# Altium footprint library hsbest2.PcbLib: 365 footprints (part 15 of 23)
Each footprint in its own frame and in the unit in brackets; x right, y up, seen from the top. Pads: shape width x height; smd on the part's side, far side on the other; paste and mask are expansions set on the pad; w line width, h text height; cw(c..) or ccw(c..) is an arc to the next point about the centre after c.
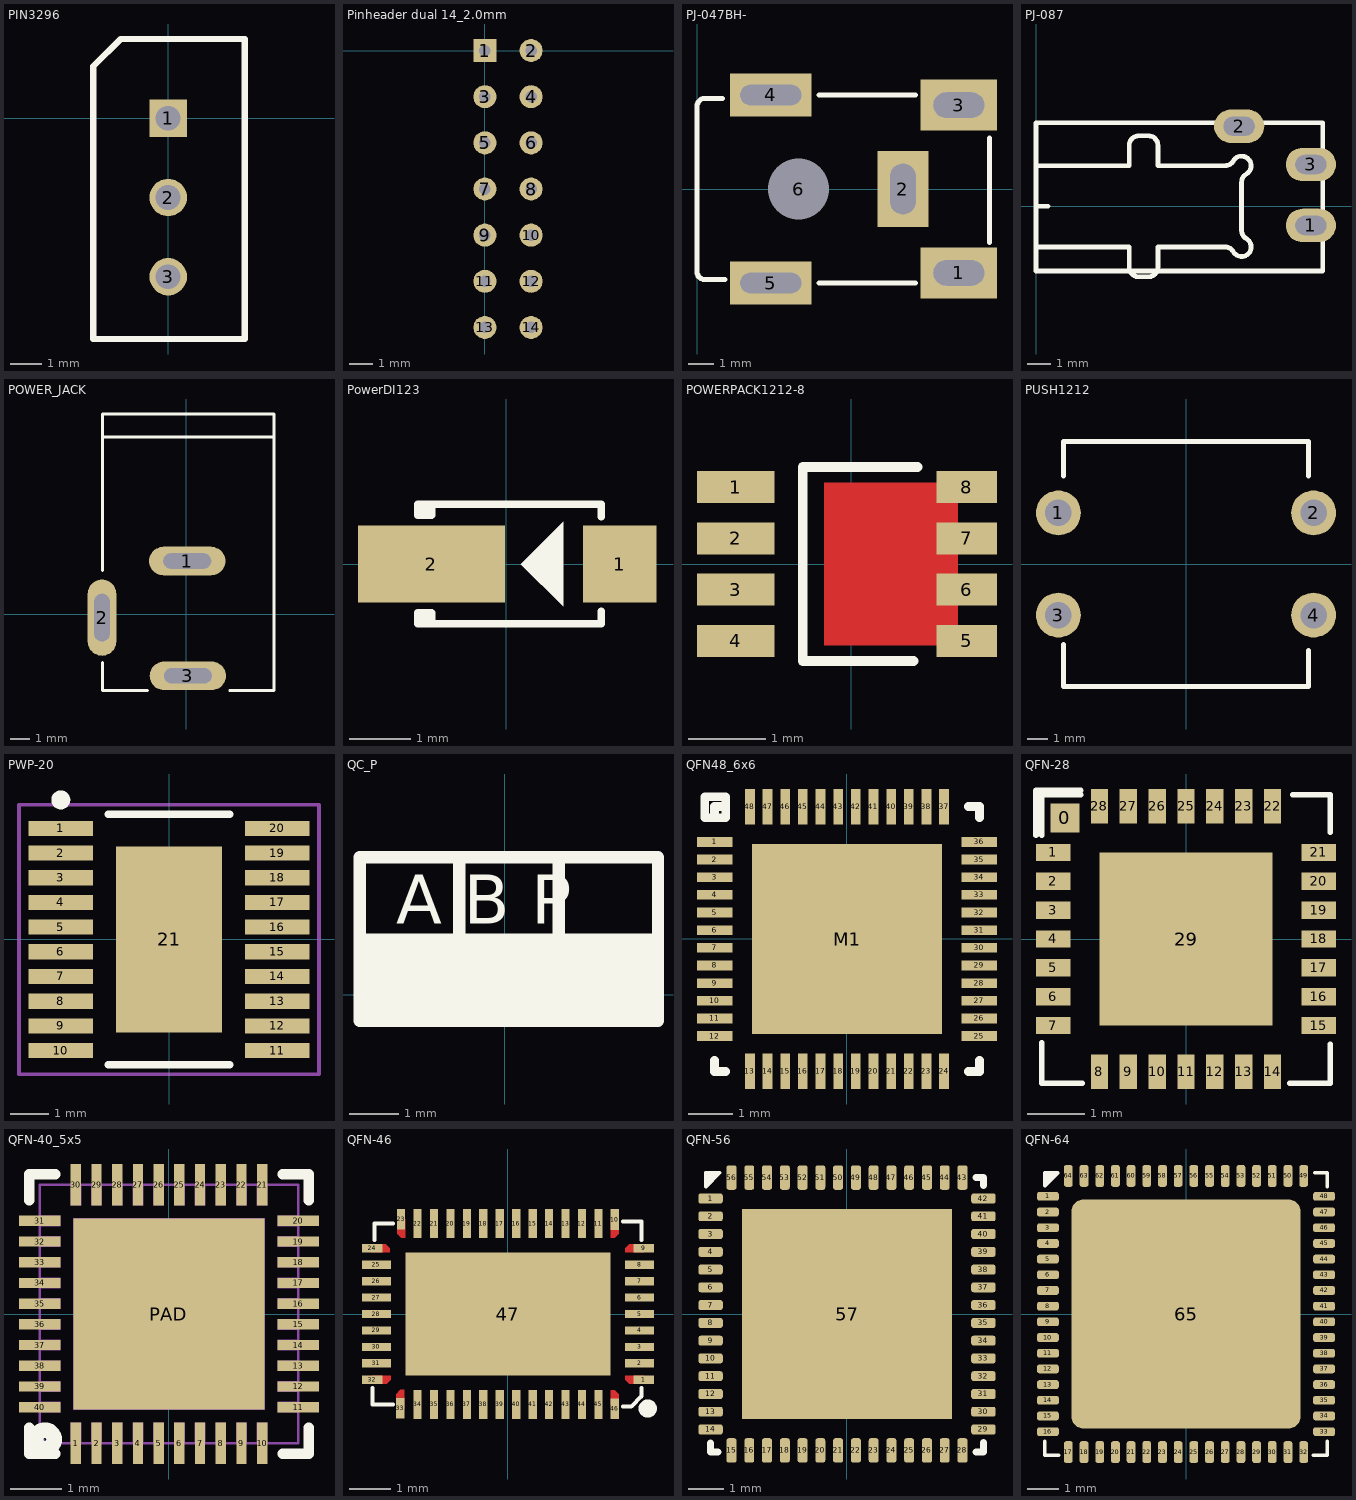
[diagram p14: the footprints below, top view; thin cyan lines are the x and y axes]

## PIN3296 [mm]
pads (3):
  rect 1.2x1.2 hole 0.8: 1(0,0)
  round 1.2 hole 0.8: 2(0,-2.54) 3(0,-5.08)
Top Overlay:
  lines w0.2: -2.4,-7.075 2.45,-7.075 2.45,2.54 -1.524,2.54 -2.4,1.664 -2.4,-7.075

## Pinheader dual 14_2.0mm [mm]
pads (14):
  rect 1x1 hole 0.5: 1(0,0)
  round 1 hole 0.5: 2(2,0) 3(0,-2) 4(2,-2) 5(0,-4) 6(2,-4) 7(0,-6) 8(2,-6) 9(0,-8) 10(2,-8) 11(0,-10) 12(2,-10) 13(0,-12) 14(2,-12)

## PJ-047BH- [mm]
pads (6):
  rect 3x2 hole 1 slot 2 at 0 deg: 1(10.3,-3.3) 3(10.3,3.3)
  rect 2x3 hole 1 slot 2 at 90 deg: 2(8.1,0)
  rect 3.2x1.7 hole 0.8 slot 2.4 at 0 deg: 4(2.9,3.7) 5(2.9,-3.7)
  round 2 hole 2.4 unplated: 6(4,0)
Top Overlay:
  lines w0.2: -0.003,-3.264 -0.003,-3.31 0.028,-3.372 0.043,-3.433 0.089,-3.464 0.135,-3.51 0.182,-3.526 0.243,-3.557 ; -0.003,3.31 0.028,3.372 0.043,3.418 0.089,3.464 0.135,3.51 0.182,3.541 0.243,3.557 0.305,3.557 1,3.557 ; 0,-3.264 0,3.31 ; 0.24,-3.557 1.1,-3.557 ; 4.8,-3.7 8.6,-3.7 ; 4.8,3.7 8.6,3.7 ; 11.5,-2.1 11.5,2

## PJ-087 [mm]
pads (3):
  oval 2.1x1.4 hole 0.8 slot 1.3 at 0 deg: 1(11.5,-0.8) 2(8.5,3.35) 3(11.5,1.75)
Top Overlay:
  lines w0.2: 0,-1.7 3.9,-1.7 3.9,-2.55 ccw(c4.3,-2.55) 4.3,-2.95 4.7,-2.95 ccw(c4.7,-2.55) 5.1,-2.55 5.1,-1.7 7.907,-1.7 cw(c7.907,-2.1) 8.254,-1.9 ccw(c8.6,-1.7) 8.8,-1.354 cw(c9,-1.007) 8.6,-1.007 8.6,1.007 cw(c9,1.007) 8.8,1.354 ccw(c8.6,1.7) 8.254,1.9 cw(c7.907,2.1) 7.907,1.7 5.1,1.7 5.1,2.55 ccw(c4.7,2.55) 4.7,2.95 4.3,2.95 ccw(c4.3,2.55) 3.9,2.55 3.9,1.7 0,1.7 ; 0,0.5 0,0 0.5,0 ; 0,-2.7 12,-2.7 12,3.5 0,3.5 0,-2.7

## POWER_JACK [mm]
pads (3):
  oval 4x1.5 hole 0.8 slot 2.5 at 0 deg: 1(0.059,2.779) 3(0.092,-3.243)
  oval 1.5x4 hole 0.8 slot 2.5 at 90 deg: 2(-4.41,-0.191)
Top Overlay:
  lines w0.15: -4.384,-2.54 -4.384,-4.01 -2.032,-4.01 ; -4.384,2.286 -4.384,10.49 4.616,10.49 4.616,-4.01 2.286,-4.01 ; -4.384,9.29 4.616,9.29

## PowerDI123 [mm]
pads (2):
  rect 1.2x1.25 smd: 1(1.85,0)
  rect 2.4x1.25 smd: 2(-1.225,0)
Top Overlay:
  region: 0.925,0.694 0.231,0 0.925,-0.694
  lines w0.125: -1.35,-0.975 -1.35,-0.8 ; -1.35,0.8 -1.35,0.95 ; -1.225,-0.975 -1.225,-0.8 -1.45,-0.8 -1.45,-0.975 1.55,-0.975 1.55,-0.775 ; -1.225,0.95 -1.225,0.8 -1.45,0.8 -1.45,0.975 1.55,0.975 1.55,0.775

## POWERPACK1212-8 [mm]
pads (8):
  rect 1x0.41 smd: 1(-1.485,0.99) 2(-1.485,0.33) 3(-1.485,-0.33) 4(-1.485,-0.99)
  rect 0.78x0.41 smd: 5(1.485,-0.99) 6(1.485,-0.33) 7(1.485,0.33) 8(1.485,0.99)
Top Layer:
  rectangle: -0.35,-1.05 1.375,1.05
Top Overlay:
  lines w0.127: 0.8,-1.25 -0.625,-1.25 -0.625,1.25 0.85,1.25

## PUSH1212 [mm] "温度传感器"
height 1.25
pads (4):
  round 2.2 hole 1.3: 1(-6.25,2.5) 2(6.25,2.5) 3(-6.25,-2.5) 4(6.25,-2.5)
Top Overlay:
  lines w0.254: -6,-3.95 -6,-6 6,-6 6,-4.25 ; -6,4.325 -6,6 6,6 6,4.325

## PWP-20 [mm]
pads (21):
  rect 1.7x0.4 smd: 1(-2.85,2.925) 2(-2.85,2.275) 3(-2.85,1.625) 4(-2.85,0.975) 5(-2.85,0.325) 6(-2.85,-0.325) 7(-2.85,-0.975) 8(-2.85,-1.625) 9(-2.85,-2.275) 10(-2.85,-2.925) 11(2.85,-2.925) 12(2.85,-2.275) 13(2.85,-1.625) 14(2.85,-0.975) 15(2.85,-0.325) 16(2.85,0.325) 17(2.85,0.975) 18(2.85,1.625) 19(2.85,2.275) 20(2.85,2.925)
  rect 2.8x4.9 smd: 21(0,0)
Top Overlay:
  circle w0.25: c-2.85,3.675 r0.125
  lines w0.2: -1.6,-3.3 1.6,-3.3 ; -1.6,3.3 1.6,3.3
Mechanical 15:
  lines w0.1: -0.5,0 0.5,0 ; 0,-0.5 0,0.5 ; -3.95,-3.55 -3.95,3.55 3.95,3.55 3.95,-3.55 -3.95,-3.55

## QC_P [mm]
Top Overlay:
  rectangle: -3,-0.475 3.1,1.25
  lines w0.254: -0.932,0.625 -0.932,2.81 ; 1.1,0.651 1.1,2.81 ; -2.964,-0.525 -2.964,2.81 3.132,2.81 3.132,-0.525 -2.964,-0.525
  text "A B P" at -2.216,1.454 h1

## QFN48_6x6 [mm]
pads (49):
  rrect0% 0.8x0.22 smd: 1(-3,2.2) 2(-3,1.8) 3(-3,1.4) 4(-3,1) 5(-3,0.6) 6(-3,0.2) 7(-3,-0.2) 8(-3,-0.6) 9(-3,-1) 10(-3,-1.4) 11(-3,-1.8) 12(-3,-2.2) 25(3,-2.2) 26(3,-1.8) 27(3,-1.4) 28(3,-1) 29(3,-0.6) 30(3,-0.2) 31(3,0.2) 32(3,0.6) 33(3,1) 34(3,1.4) 35(3,1.8) 36(3,2.2)
  rrect0% 0.22x0.8 smd: 13(-2.2,-3) 14(-1.8,-3) 15(-1.4,-3) 16(-1,-3) 17(-0.6,-3) 18(-0.2,-3) 19(0.2,-3) 20(0.6,-3) 21(1,-3) 22(1.4,-3) 23(1.8,-3) 24(2.2,-3) 37(2.2,3) 38(1.8,3) 39(1.4,3) 40(1,3) 41(0.6,3) 42(0.2,3) 43(-0.2,3) 44(-0.6,3) 45(-1,3) 46(-1.4,3) 47(-1.8,3) 48(-2.2,3)
  rect 4.3x4.3 smd: M1(0,0)
Top Overlay:
  lines w0.2: -3,-2.75 -3,-3 -2.75,-3 ; -3,2.75 -3,3 -2.75,3 ; 2.75,-3 3,-3 3,-2.75 ; 2.75,3 3,3 3,2.75 ; -3.225,2.75 -3.225,3.225 -2.75,3.225 -2.75,2.75 -3.225,2.75

## QFN-28 [mm]
pads (30):
  rect 0.5x0.5 smd: 0(-2.1,2.1)
  rect 0.6x0.3 smd: 1(-2.3,1.5) 2(-2.3,1) 3(-2.3,0.5) 4(-2.3,0) 5(-2.3,-0.5) 6(-2.3,-1) 7(-2.3,-1.5) 15(2.3,-1.5) 16(2.3,-1) 17(2.3,-0.5) 18(2.3,0) 19(2.3,0.5) 20(2.3,1) 21(2.3,1.5)
  rect 0.3x0.6 smd: 8(-1.5,-2.3) 9(-1,-2.3) 10(-0.5,-2.3) 11(0,-2.3) 12(0.5,-2.3) 13(1,-2.3) 14(1.5,-2.3) 22(1.5,2.3) 23(1,2.3) 24(0.5,2.3) 25(0,2.3) 26(-0.5,2.3) 27(-1,2.3) 28(-1.5,2.3)
  rect 3x3 smd: 29(0,0)
Top Overlay:
  lines w0.1: -2.6,1.8 -2.6,2.575 -1.825,2.575 ; -2.5,-1.8 -2.5,-2.5 -1.8,-2.5 ; -2.5,1.8 -2.5,2.5 -1.825,2.5 ; 1.8,-2.5 2.5,-2.5 2.5,-1.825 ; 1.85,2.5 2.5,2.5 2.5,1.85

## QFN-40_5x5 [mm]
pads (41):
  rect 0.2x0.8 smd paste-100 mask+0.05: 1(-1.8,-2.499) 2(-1.4,-2.499) 3(-1,-2.499) 4(-0.6,-2.499) 5(-0.2,-2.499) 6(0.2,-2.499) 7(0.6,-2.499) 8(1,-2.499) 9(1.4,-2.499) 10(1.8,-2.499) 21(1.8,2.499) 22(1.4,2.499) 23(1,2.499) 24(0.6,2.499) 25(0.2,2.499) 26(-0.2,2.499) 27(-0.6,2.499) 28(-1,2.499) 29(-1.4,2.499) 30(-1.8,2.499)
  rect 0.8x0.2 smd paste-100 mask+0.05: 11(2.499,-1.8) 12(2.499,-1.4) 13(2.499,-1) 14(2.499,-0.6) 15(2.499,-0.2) 16(2.499,0.2) 17(2.499,0.6) 18(2.499,1) 19(2.499,1.4) 20(2.499,1.8) 31(-2.499,1.8) 32(-2.499,1.4) 33(-2.499,1) 34(-2.499,0.6) 35(-2.499,0.2) 36(-2.499,-0.2) 37(-2.499,-0.6) 38(-2.499,-1) 39(-2.499,-1.4) 40(-2.499,-1.8)
  rect 3.7x3.7 smd paste-100 mask+0.05: PAD(0,0)
Top Overlay:
  lines w0.2: -2.7,-2.2 -2.7,-2.7 -2.2,-2.7 ; -2.7,2.2 -2.7,2.7 -2.2,2.7 ; 2.2,-2.7 2.7,-2.7 2.7,-2.2 ; 2.2,2.7 2.7,2.7 2.7,2.2
  lines w0.3: -2.402,-2.245 ccw(c-2.4,-2.425) -2.398,-2.245
Top Paste:
  drawing of 41 lines, arcs and shapes, not listed
Mechanical 15:
  drawing of 46 lines, arcs and shapes, not listed

## QFN-46 [mm]
pads (47):
  rect 0.5x0.2 smd: 1(3.3,-1.6) 9(3.3,1.6) 24(-3.3,1.6) 32(-3.3,-1.6)
  rect 0.7x0.2 smd: 2(3.2,-1.2) 3(3.2,-0.8) 4(3.2,-0.4) 5(3.2,0) 6(3.2,0.4) 7(3.2,0.8) 8(3.2,1.2) 25(-3.2,1.2) 26(-3.2,0.8) 27(-3.2,0.4) 28(-3.2,0) 29(-3.2,-0.4) 30(-3.2,-0.8) 31(-3.2,-1.2)
  rect 0.2x0.5 smd: 10(2.6,2.3) 23(-2.601,2.301) 33(-2.621,-2.296) 46(2.6,-2.3)
  rect 0.2x0.7 smd: 11(2.2,2.2) 12(1.8,2.2) 13(1.4,2.2) 14(1,2.2) 15(0.6,2.2) 16(0.2,2.2) 17(-0.2,2.2) 18(-0.6,2.2) 19(-1,2.2) 20(-1.4,2.2) 21(-1.8,2.2) 22(-2.2,2.2) 34(-2.2,-2.2) 35(-1.8,-2.2) 36(-1.4,-2.2) 37(-1,-2.2) 38(-0.6,-2.2) 39(-0.2,-2.2) 40(0.2,-2.2) 41(0.6,-2.2) 42(1,-2.2) 43(1.4,-2.2) 44(1.8,-2.2) 45(2.2,-2.2)
  rect 5x3 smd: 47(0,0)
Top Layer:
  region: 2.5,2.3 2.5,1.85 2.6,1.85 2.7,1.95 2.7,2.3
  region: 3.3,1.5 2.85,1.5 2.85,1.6 2.95,1.7 3.3,1.7
  region: 3.3,-1.5 2.85,-1.5 2.85,-1.6 2.95,-1.7 3.3,-1.7
  region: 2.7,-2.2 2.7,-1.95 2.6,-1.85 2.5,-1.85 2.5,-2.2
  region: -3.327,1.5 -2.877,1.5 -2.877,1.6 -2.977,1.7 -3.327,1.7
  region: -2.521,-2.296 -2.521,-1.846 -2.621,-1.846 -2.721,-1.946 -2.721,-2.296
  region: -2.501,2.301 -2.501,1.851 -2.601,1.851 -2.701,1.951 -2.701,2.301
  region: -3.3,-1.5 -2.85,-1.5 -2.85,-1.6 -2.95,-1.7 -3.3,-1.7
Top Overlay:
  circle w0.3: c3.4,-2.3 r0.071
  lines w0.01: 3.25,1.85 3.25,1.9
  lines w0.1: -3.3,-1.8 -3.3,-2.2 -2.8,-2.2 ; -3.25,1.8 -3.25,2.2 -2.8,2.2 ; 2.8,-2.25 3,-2.25 3.25,-2 3.25,-1.8 ; 2.8,2.25 3.25,2.25 3.25,1.8
Top Solder:
  region: -2.421,-2.646 -2.421,-1.746 -2.821,-1.746 -2.821,-2.646
  rectangle: -3.65,-1.8 -2.75,-1.4
  region: 3.65,-1.4 2.75,-1.4 2.75,-1.8 3.65,-1.8
  region: 2.8,-2.65 2.8,-1.75 2.4,-1.75 2.4,-2.65
  region: 3.65,1.8 2.75,1.8 2.75,1.4 3.65,1.4
  region: 2.4,2.65 2.4,1.75 2.8,1.75 2.8,2.65
  region: -2.801,2.651 -2.801,1.751 -2.401,1.751 -2.401,2.651
  rectangle: -3.65,1.4 -2.75,1.8

## QFN-56 [mm]
pads (57):
  rrect50% 0.69x0.28 smd: 1(-3.84,3.25) 2(-3.84,2.75) 3(-3.84,2.25) 4(-3.84,1.75) 5(-3.84,1.25) 6(-3.84,0.75) 7(-3.84,0.25) 8(-3.84,-0.25) 9(-3.84,-0.75) 10(-3.84,-1.25) 11(-3.84,-1.75) 12(-3.84,-2.25) 13(-3.84,-2.75) 14(-3.84,-3.25) 29(3.84,-3.25) 30(3.84,-2.75) 31(3.84,-2.25) 32(3.84,-1.75) 33(3.84,-1.25) 34(3.84,-0.75) 35(3.84,-0.25) 36(3.84,0.25) 37(3.84,0.75) 38(3.84,1.25) 39(3.84,1.75) 40(3.84,2.25) 41(3.84,2.75) 42(3.84,3.25)
  rrect50% 0.28x0.69 smd: 15(-3.25,-3.84) 16(-2.75,-3.84) 17(-2.25,-3.84) 18(-1.75,-3.84) 19(-1.25,-3.84) 20(-0.75,-3.84) 21(-0.25,-3.84) 22(0.25,-3.84) 23(0.75,-3.84) 24(1.25,-3.84) 25(1.75,-3.84) 26(2.25,-3.84) 27(2.75,-3.84) 28(3.25,-3.84) 43(3.25,3.84) 44(2.75,3.84) 45(2.25,3.84) 46(1.75,3.84) 47(1.25,3.84) 48(0.75,3.84) 49(0.25,3.84) 50(-0.25,3.84) 51(-0.75,3.84) 52(-1.25,3.84) 53(-1.75,3.84) 54(-2.25,3.84) 55(-2.75,3.84) 56(-3.25,3.84)
  rect 5.9x5.9 smd: 57(0,0)
Top Overlay:
  lines w0.1: -3.98,3.675 -3.68,3.975 ; -3.955,3.825 -3.805,3.975 ; -3.98,3.975 -3.98,3.975 ; -3.98,3.975 -3.98,3.575 -3.58,3.975 -3.98,3.975
  lines w0.2: -3.84,-3.635 -3.84,-3.885 -3.625,-3.885 ; 3.625,-3.885 3.84,-3.885 3.84,-3.62 ; 3.625,3.84 3.84,3.84 3.84,3.615

## QFN-64 [mm]
pads (65):
  rrect50% 0.69x0.28 smd: 1(-4.4,3.75) 2(-4.4,3.25) 3(-4.4,2.75) 4(-4.4,2.25) 5(-4.4,1.75) 6(-4.4,1.25) 7(-4.4,0.75) 8(-4.4,0.25) 9(-4.4,-0.25) 10(-4.4,-0.75) 11(-4.4,-1.25) 12(-4.4,-1.75) 13(-4.4,-2.25) 14(-4.4,-2.75) 15(-4.4,-3.25) 16(-4.4,-3.75) 33(4.4,-3.75) 34(4.4,-3.25) 35(4.4,-2.75) 36(4.4,-2.25) 37(4.4,-1.75) 38(4.4,-1.25) 39(4.4,-0.75) 40(4.4,-0.25) 41(4.4,0.25) 42(4.4,0.75) 43(4.4,1.25) 44(4.4,1.75) 45(4.4,2.25) 46(4.4,2.75) 47(4.4,3.25) 48(4.4,3.75)
  rrect50% 0.28x0.69 smd: 17(-3.75,-4.4) 18(-3.25,-4.4) 19(-2.75,-4.4) 20(-2.25,-4.4) 21(-1.75,-4.4) 22(-1.25,-4.4) 23(-0.75,-4.4) 24(-0.25,-4.4) 25(0.25,-4.4) 26(0.75,-4.4) 27(1.25,-4.4) 28(1.75,-4.4) 29(2.25,-4.4) 30(2.75,-4.4) 31(3.25,-4.4) 32(3.75,-4.4) 49(3.75,4.4) 50(3.25,4.4) 51(2.75,4.4) 52(2.25,4.4) 53(1.75,4.4) 54(1.25,4.4) 55(0.75,4.4) 56(0.25,4.4) 57(-0.25,4.4) 58(-0.75,4.4) 59(-1.25,4.4) 60(-1.75,4.4) 61(-2.25,4.4) 62(-2.75,4.4) 63(-3.25,4.4) 64(-3.75,4.4)
  rrect10% 7.3x7.3 smd: 65(0,0)
Top Overlay:
  lines w0.1: -4.5,-4.05 -4.5,-4.5 -4.05,-4.5 ; -4.5,4.2 -4.2,4.5 ; -4.475,4.35 -4.325,4.5 ; 4.05,-4.5 4.5,-4.5 4.5,-4.05 ; 4.1,4.5 4.5,4.5 4.5,4.05 ; -4.5,4.5 -4.5,4.5 ; -4.5,4.5 -4.5,4.075 -4.075,4.5 -4.5,4.5